# EAGLE library part M-2X20- (library con-headers-jp)
MALE HEADER
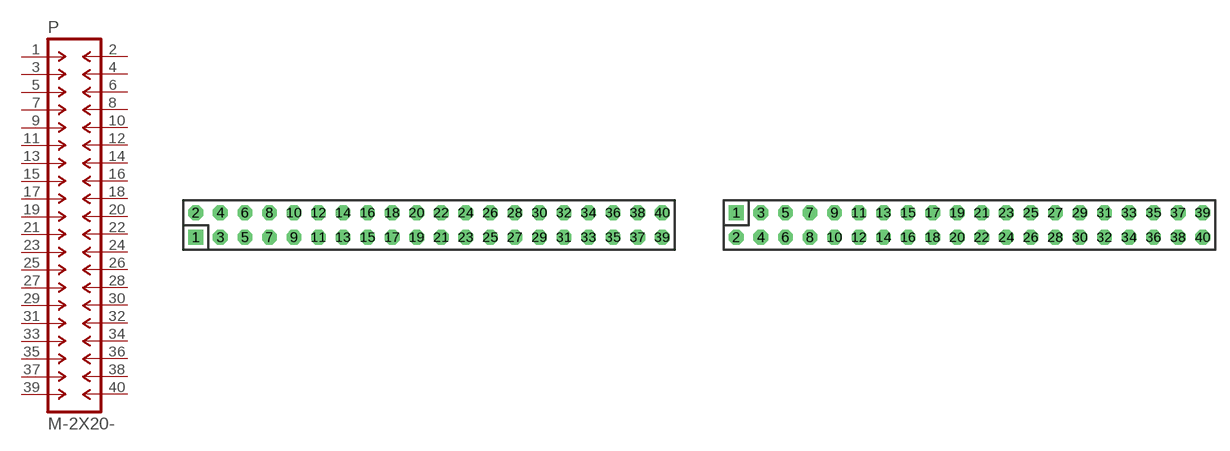
[diagram p72: symbol with the pads of DIL-100-2X20; footprints DIL-100-2X20, DIL-100-2X20_M]

Designator prefix P

## M-2X20-DIL-100  [DIL-100-2X20]
1  1  pas
2  2  pas
3  3  pas
4  4  pas
5  5  pas
6  6  pas
7  7  pas
8  8  pas
9  9  pas
10  10  pas
11  11  pas
12  12  pas
13  13  pas
14  14  pas
15  15  pas
16  16  pas
17  17  pas
18  18  pas
19  19  pas
20  20  pas
21  21  pas
22  22  pas
23  23  pas
24  24  pas
25  25  pas
26  26  pas
27  27  pas
28  28  pas
29  29  pas
30  30  pas
31  31  pas
32  32  pas
33  33  pas
34  34  pas
35  35  pas
36  36  pas
37  37  pas
38  38  pas
39  39  pas
40  40  pas

## M-2X20-DIL-100_M  [DIL-100-2X20_M]
Pads as for DIL-100-2X20

## M-2X20-DIL-2MM  [DIL-2MM-2X20]
Pads as for DIL-100-2X20

## M-2X20-DIL-2MM_M  [DIL-2MM-2X20_M]
Pads as for DIL-100-2X20

## Footprint DIL-100-2X20 (pad centres in mm)
PIN HEADER - 0.1"
drill 1.016 square: 1 -24.13,-1.27
drill 1.016 octagon: 2 -24.13,1.27; 3 -21.59,-1.27; 4 -21.59,1.27; 5 -19.05,-1.27; 6 -19.05,1.27; 7 -16.51,-1.27; 8 -16.51,1.27; 9 -13.97,-1.27; 10 -13.97,1.27; 11 -11.43,-1.27; 12 -11.43,1.27; 13 -8.89,-1.27; 14 -8.89,1.27; 15 -6.35,-1.27; 16 -6.35,1.27; 17 -3.81,-1.27; 18 -3.81,1.27; 19 -1.27,-1.27; 20 -1.27,1.27; 21 1.27,-1.27; 22 1.27,1.27; 23 3.81,-1.27; 24 3.81,1.27; 25 6.35,-1.27; 26 6.35,1.27; 27 8.89,-1.27; 28 8.89,1.27; 29 11.43,-1.27; 30 11.43,1.27; 31 13.97,-1.27; 32 13.97,1.27; 33 16.51,-1.27; 34 16.51,1.27; 35 19.05,-1.27; 36 19.05,1.27; 37 21.59,-1.27; 38 21.59,1.27; 39 24.13,-1.27; 40 24.13,1.27

## Footprint DIL-100-2X20_M (pad centres in mm)
PIN HEADER - MIRRORED 0.1"
drill 1.016 square: 1 -24.13,1.27
drill 1.016 octagon: 2 -24.13,-1.27; 3 -21.59,1.27; 4 -21.59,-1.27; 5 -19.05,1.27; 6 -19.05,-1.27; 7 -16.51,1.27; 8 -16.51,-1.27; 9 -13.97,1.27; 10 -13.97,-1.27; 11 -11.43,1.27; 12 -11.43,-1.27; 13 -8.89,1.27; 14 -8.89,-1.27; 15 -6.35,1.27; 16 -6.35,-1.27; 17 -3.81,1.27; 18 -3.81,-1.27; 19 -1.27,1.27; 20 -1.27,-1.27; 21 1.27,1.27; 22 1.27,-1.27; 23 3.81,1.27; 24 3.81,-1.27; 25 6.35,1.27; 26 6.35,-1.27; 27 8.89,1.27; 28 8.89,-1.27; 29 11.43,1.27; 30 11.43,-1.27; 31 13.97,1.27; 32 13.97,-1.27; 33 16.51,1.27; 34 16.51,-1.27; 35 19.05,1.27; 36 19.05,-1.27; 37 21.59,1.27; 38 21.59,-1.27; 39 24.13,1.27; 40 24.13,-1.27

## Footprint DIL-2MM-2X20 (pad centres in mm)
PIN HEADER - 2MM
drill 0.711 square: 1 -19,-1
drill 0.711 round: 2 -19,1; 3 -17,-1; 4 -17,1; 5 -15,-1; 6 -15,1; 7 -13,-1; 8 -13,1; 9 -11,-1; 10 -11,1; 11 -9,-1; 12 -9,1; 13 -7,-1; 14 -7,1; 15 -5,-1; 16 -5,1; 17 -3,-1; 18 -3,1; 19 -1,-1; 20 -1,1; 21 1,-1; 22 1,1; 23 3,-1; 24 3,1; 25 5,-1; 26 5,1; 27 7,-1; 28 7,1; 29 9,-1; 30 9,1; 31 11,-1; 32 11,1; 33 13,1; 34 13,-1; 35 15,1; 36 15,-1; 37 17,1; 38 17,-1; 39 19,1; 40 19,-1

## Footprint DIL-2MM-2X20_M (pad centres in mm)
PIN HEADER - MIRRORED 2MM
drill 0.711 square: 1 -19,1
drill 0.711 round: 2 -19,-1; 3 -17,1; 4 -17,-1; 5 -15,1; 6 -15,-1; 7 -13,1; 8 -13,-1; 9 -11,1; 10 -11,-1; 11 -9,1; 12 -9,-1; 13 -7,1; 14 -7,-1; 15 -5,1; 16 -5,-1; 17 -3,1; 18 -3,-1; 19 -1,1; 20 -1,-1; 21 1,1; 22 1,-1; 23 3,1; 24 3,-1; 25 5,1; 26 5,-1; 27 7,1; 28 7,-1; 29 9,1; 30 9,-1; 31 11,1; 32 11,-1; 33 13,-1; 34 13,1; 35 15,-1; 36 15,1; 37 17,-1; 38 17,1; 39 19,-1; 40 19,1